# Altium schematic symbol library TLVM23625RDNR.SchLib: 1 symbol
Pins are listed as number, name and electrical type; pins without a type are passive.

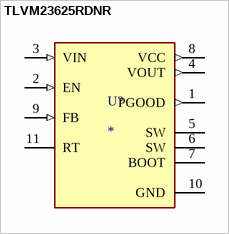
[diagram p0: symbol TLVM23625RDNR]

## TLVM23625RDNR
designator U?
MF: {'manufacturer': u'Texas Instruments'}; MP: TLVM23625RDNR; Package: None; Price: None; Value: *; Availability: Unavailable
footprint CONV_TLVM23625RDNR
pins: 1 PGOOD (out), 2 EN (in), 3 VIN (in), 4 VOUT (out), 5 SW, 6 SW, 7 BOOT, 8 VCC (out), 9 FB (in), 10 GND (power), 11 RT